# EAGLE library part MCP4011-103E/MS (library Jim)
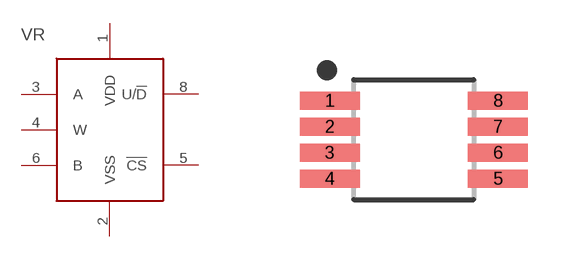
[diagram p1: symbol with the pads of SOP65P490X265-8N; footprint SOP65P490X265-8N]

Designator prefix VR

## MCP4011-103E/MSMCP4011-103E/MS  [SOP65P490X265-8N]
1  VDD
2  VSS
3  A
4  W
5  !CS
6  B
8  U/!D

## Footprint SOP65P490X265-8N (pad centres in mm)
8-SOP, 0.65 mm pitch, 4.90 mm span, 3.00 X 3.00 X 2.65 mm body 8-pin SOP package with 0.65 mm pitch, 4.90 mm span with body size 3.00 X 3.00 X 2.65 mm
smd 1.503 x 0.457: 1 -2.104,0.975; 2 -2.104,0.325; 3 -2.104,-0.325; 4 -2.104,-0.975; 5 2.104,-0.975; 6 2.104,-0.325; 7 2.104,0.325; 8 2.104,0.975